# EAGLE library part ZM5101 (library Z-Wave_Europe)
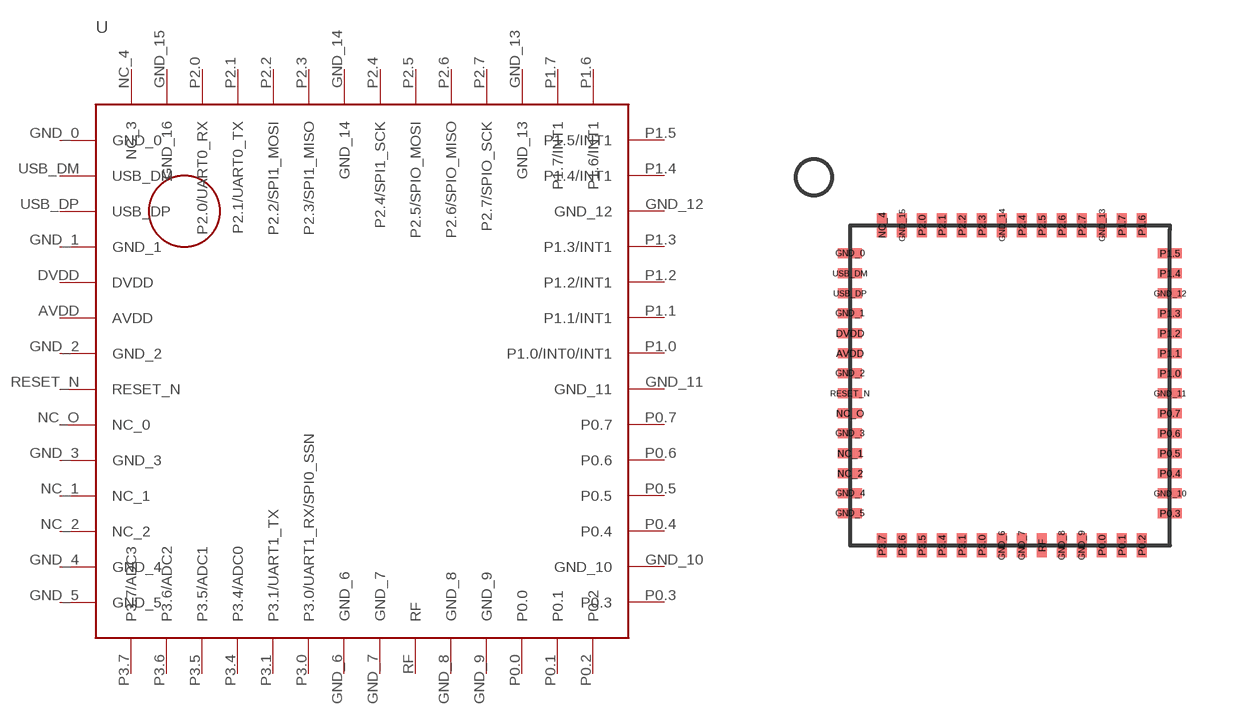
[diagram p4: symbol with the pads of SIGMA_DESIGNS_56; footprint SIGMA_DESIGNS_56]

Designator prefix -

## ZM5101  [SIGMA_DESIGNS_56]
AVDD  AVDD
DVDD  DVDD
GND_0  GND_0
GND_1  GND_1
GND_2  GND_2
GND_3  GND_3
GND_4  GND_4
GND_5  GND_5
GND_6  GND_6
GND_7  GND_7
GND_8  GND_8
GND_9  GND_9
GND_10  GND_10
GND_11  GND_11
GND_12  GND_12
GND_13  GND_13
GND_14  GND_14
GND_15  GND_16
NC_1  NC_1
NC_2  NC_2
NC_4  NC_3
NC_O  NC_0
P0.0  P0.0
P0.1  P0.1
P0.2  P0.2
P0.3  P0.3
P0.4  P0.4
P0.5  P0.5
P0.6  P0.6
P0.7  P0.7
P1.0  P1.0/INT0/INT1
P1.1  P1.1/INT1
P1.2  P1.2/INT1
P1.3  P1.3/INT1
P1.4  P1.4/INT1
P1.5  P1.5/INT1
P1.6  P1.6/INT1
P1.7  P1.7/INT1
P2.0  P2.0/UART0_RX
P2.1  P2.1/UART0_TX
P2.2  P2.2/SPI1_MOSI
P2.3  P2.3/SPI1_MISO
P2.4  P2.4/SPI1_SCK
P2.5  P2.5/SPIO_MOSI
P2.6  P2.6/SPIO_MISO
P2.7  P2.7/SPIO_SCK
P3.0  P3.0/UART1_RX/SPI0_SSN
P3.1  P3.1/UART1_TX
P3.4  P3.4/ADC0
P3.5  P3.5/ADC1
P3.6  P3.6/ADC2
P3.7  P3.7/ADC3
RESET_N  RESET_N
RF  RF
USB_DM  USB_DM
USB_DP  USB_DP

## Footprint SIGMA_DESIGNS_56 (pad centres in mm)
smd 0.6 x 0.25: AVDD 0.3,5.1; DVDD 0.3,5.6; GND_0 0.3,7.6; GND_1 0.3,6.1; GND_2 0.3,4.6; GND_3 0.3,3.1; GND_4 0.3,1.6; GND_5 0.3,1.1; GND_10 8.3,1.6; GND_11 8.3,4.1; GND_12 8.3,6.6; NC_1 0.3,2.6; NC_2 0.3,2.1; NC_O 0.3,3.6; P0.3 8.3,1.1; P0.4 8.3,2.1; P0.5 8.3,2.6; P0.6 8.3,3.1; P0.7 8.3,3.6; P1.0 8.3,4.6; P1.1 8.3,5.1; P1.2 8.3,5.6; P1.3 8.3,6.1; P1.4 8.3,7.1; P1.5 8.3,7.6; RESET_N 0.3,4.1; USB_DM 0.3,7.1; USB_DP 0.3,6.6
smd 0.25 x 0.6: GND_6 4.1,0.3; GND_7 4.6,0.3; GND_8 5.6,0.3; GND_9 6.1,0.3; GND_13 6.6,8.3; GND_14 4.1,8.3; GND_15 1.6,8.3; NC_4 1.1,8.3; P0.0 6.6,0.3; P0.1 7.1,0.3; P0.2 7.6,0.3; P1.6 7.6,8.3; P1.7 7.1,8.3; P2.0 2.1,8.3; P2.1 2.6,8.3; P2.2 3.1,8.3; P2.3 3.6,8.3; P2.4 4.6,8.3; P2.5 5.1,8.3; P2.6 5.6,8.3; P2.7 6.1,8.3; P3.0 3.6,0.3; P3.1 3.1,0.3; P3.4 2.6,0.3; P3.5 2.1,0.3; P3.6 1.6,0.3; P3.7 1.1,0.3; RF 5.1,0.3